# Altium integrated library Unified Inductors.IntLib: 14 symbols
Pins are listed as number, name and electrical type; pins without a type are passive.

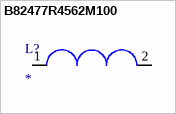
[diagram p0: symbol B82477R4562M100]

## B82477R4562M100
designator L?
B82477R4562M100, SMD, 5.6uH, 7.25A, Isat=12.75A 11.5mOhm 12.5x12.5x8.5mm; Tolerance: ±20%; Saturation current: 12.75A; Value: 5.6 uH; Temperature range: -55 to +150 °C
footprint B82477R4
pins: 1, 2


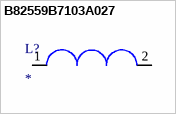
[diagram p1: symbol B82559B7103A027]

## B82559B7103A027
designator L?
Value: 10 uH; Tolerance: ±10%; Saturation current: 34.8A; Temperature range: -40 to +150 °C
footprint B82559B_A027
pins: 1, 2


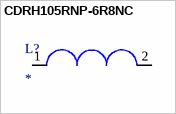
[diagram p2: symbol CDRH105RNP-6R8NC]

## CDRH105RNP-6R8NC
designator L?
6.8µH Shielded Inductor 5.4A 18mOhm Max Nonstandard; Value: 6.8 uH; Tolerance: ±30%; Tamperature range: -40 to +100 °C; Saturation current: 6.3A
footprint Inductor 10.5x10.3x5.1mm
pins: 1, 2


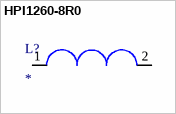
[diagram p3: symbol HPI1260-8R0]

## HPI1260-8R0
designator L?
Value: 8 uH; Tolerance: ±20%; Saturation current: 9.5A; Temperature range: -55 to +125 °C
footprint Inductor 13.8x12.6x4.8mm
pins: 1, 2


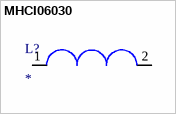
[diagram p4: symbol MHCI06030]

## MHCI06030
designator L?
Value: uH; Tolerance: ±20%; Saturation current: A; Temperature range: -55 to +125 ℃
footprint MHCI06030
pins: 1, 2


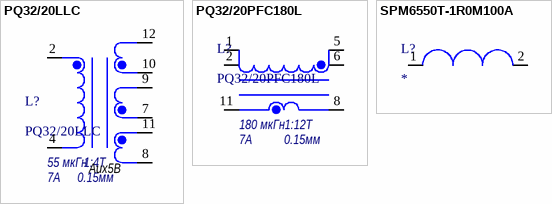
[diagram p5: symbols PQ32/20LLC to SPM6550T-1R0M100A]

## PQ32/20LLC
designator L?  value 55 мкГн  ValueIII: 0.15мм  ValueII: 1:4T  ValueI: 7А
Tolerance: ±20%
footprint PQ32/20 (Ferrite and bobbin)
pins: 2, 4, 7, 8, 9, 10, 11, 12
text: Aux5В

## PQ32/20PFC180L
designator L?  value 180 мкГн  ValueIII: 0.15мм  ValueII: 1:12T  ValueI: 7А
Tolerance: ±20%
footprint PQ32/20 (Ferrite and bobbin)
pins: 1, 2, 5, 6, 8, 11

## SPM6550T-1R0M100A
designator L?
Value: 1.09 uH; Tolerance: ±20%; Saturation current: 15.3A; Temperature range: –40 to +125 °C
pins: 1, 2


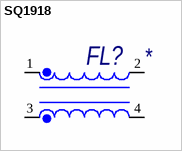
[diagram p6: symbol SQ1918]

## SQ1918
designator FL?
!!! Обязательно Впишите описание символа
footprint SQ1918
pins: 1, 2, 3, 4


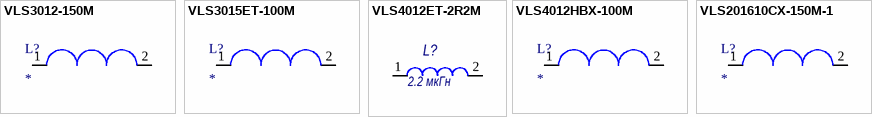
[diagram p7: symbols VLS3012-150M to VLS201610CX-150M-1]

## VLS3012-150M
designator L?
Value: 15uH; Tolerance: ±20%; Saturation current: 1.23A; Temperature range: -40 to +105 °C
footprint Inductor 3x3x1.2mm
pins: 1, 2

## VLS3015ET-100M
designator L?
Value: 10uH; Tolerance: ±20%; Saturation Current: 0.7A; Temperature range: -40 to +105 °C
footprint Inductor 3x3x1.5mm
pins: 1, 2

## VLS4012ET-2R2M
designator L?  value 2.2 мкГн  (hidden comment: VLS4012ET-2R2M)
Tolerance: ±20%; Saturation current: 1.82A; Temperature range: -40 to +105°C; ID: VLS4012ET-2R2M
footprint VLS4012ET
pins: 1, 2

## VLS4012HBX-100M
designator L?
Value: 10uH; Tolerance: ±20%; Saturation current: 1.82A; Temperature range: -40 to +105°C
pins: 1, 2

## VLS201610CX-150M-1
designator L?
Value: 15uH; Tolerance: ±20%; Saturation current: 0.63A; Temperature range: -40 to +105  °C
footprint Inductor 2x1.6x1mm
pins: 1, 2